# EAGLE library part TB6612 (library ZUBA_MINISUMO)
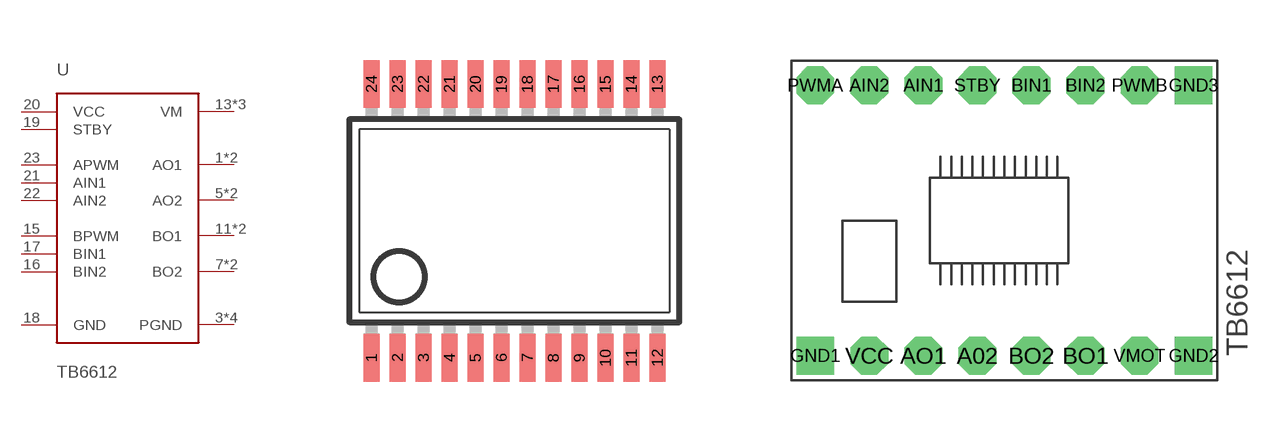
[diagram p0: symbol with the pads of SSOP24; footprints SSOP24, POLOLU]

Designator prefix -

## TB6612TB6612FNG-SSOP24P  [SSOP24]
1  AO1
2  AO1
3  PGND
4  PGND
5  AO2
6  AO2
7  BO2
8  BO2
9  PGND
10  PGND
11  BO1
12  BO1
13  VM
14  VM
15  BPWM
16  BIN2
17  BIN1
18  GND
19  STBY
20  VCC
21  AIN1
22  AIN2
23  APWM
24  VM

## TB6612POLOLU  [POLOLU]
A02  AO2
AIN1  AIN1
AIN2  AIN2
AO1  AO1
BIN1  BIN1
BIN2  BIN2
BO1  BO1
BO2  BO2
GND1  GND
GND2  PGND
GND3  PGND
PWMA  APWM
PWMB  BPWM
STBY  STBY
VCC  VCC
VMOT  VM

## TB6612SPARKFUN  [SPARKFUN_TB6612]
AIN1  AIN1
AIN2  AIN2
AO1  AO1
AO2  AO2
BIN1  BIN1
BIN2  BIN2
BO1  BO1
BO2  BO2
GND  PGND
GND1  PGND
GND2  GND
PWMA  APWM
PWMB  BPWM
STBY  STBY
VCC  VCC
VM  VM

## Footprint SSOP24 (pad centres in mm)
Small Shrink Outline Package SOT340-1 / JEDEC MO-150AG
smd 0.4 x 1.2: 1 -3.575,-3.42; 2 -2.925,-3.42; 3 -2.275,-3.42; 4 -1.625,-3.42; 5 -0.975,-3.42; 6 -0.325,-3.42; 7 0.325,-3.42; 8 0.975,-3.42; 9 1.625,-3.42; 10 2.275,-3.42; 11 2.925,-3.42; 12 3.575,-3.42; 13 3.575,3.42; 14 2.925,3.42; 15 2.275,3.42; 16 1.625,3.42; 17 0.975,3.42; 18 0.325,3.42; 19 -0.325,3.42; 20 -0.975,3.42; 21 -1.625,3.42; 22 -2.275,3.42; 23 -2.925,3.42; 24 -3.575,3.42

## Footprint POLOLU (pad centres in mm)
drill 1 pad 1.778 octagon: A02 -1.27,-6.35; AIN1 -3.81,6.35; AIN2 -6.35,6.35; AO1 -3.81,-6.35; BIN1 1.27,6.35; BIN2 3.81,6.35; BO1 3.81,-6.35; BO2 1.27,-6.35; PWMA -8.89,6.35; PWMB 6.35,6.35; STBY -1.27,6.35; VCC -6.35,-6.35; VMOT 6.35,-6.35
drill 1 pad 1.778 square: GND1 -8.89,-6.35; GND2 8.89,-6.35; GND3 8.89,6.35

## Footprint SPARKFUN_TB6612 (pad centres in mm)
drill 1 long: AIN1 5.08,13.97; AIN2 2.54,13.97; AO1 7.62,-1.27; AO2 10.16,-1.27; BIN1 10.16,13.97; BIN2 12.7,13.97; BO1 15.24,-1.27; BO2 12.7,-1.27; GND 17.78,13.97; GND1 5.08,-1.27; GND2 17.78,-1.27; PWMA 0,13.97; PWMB 15.24,13.97; STBY 7.62,13.97; VCC 2.54,-1.27; VM 0,-1.27